# Altium footprint library FinalProjectPcbLib.PcbLib: 27 footprints (part 2 of 2)
Each footprint in its own frame and in the unit in brackets; x right, y up, seen from the top. Pads: shape width x height; smd on the part's side, far side on the other; paste and mask are expansions set on the pad; w line width, h text height; cw(c..) or ccw(c..) is an arc to the next point about the centre after c.
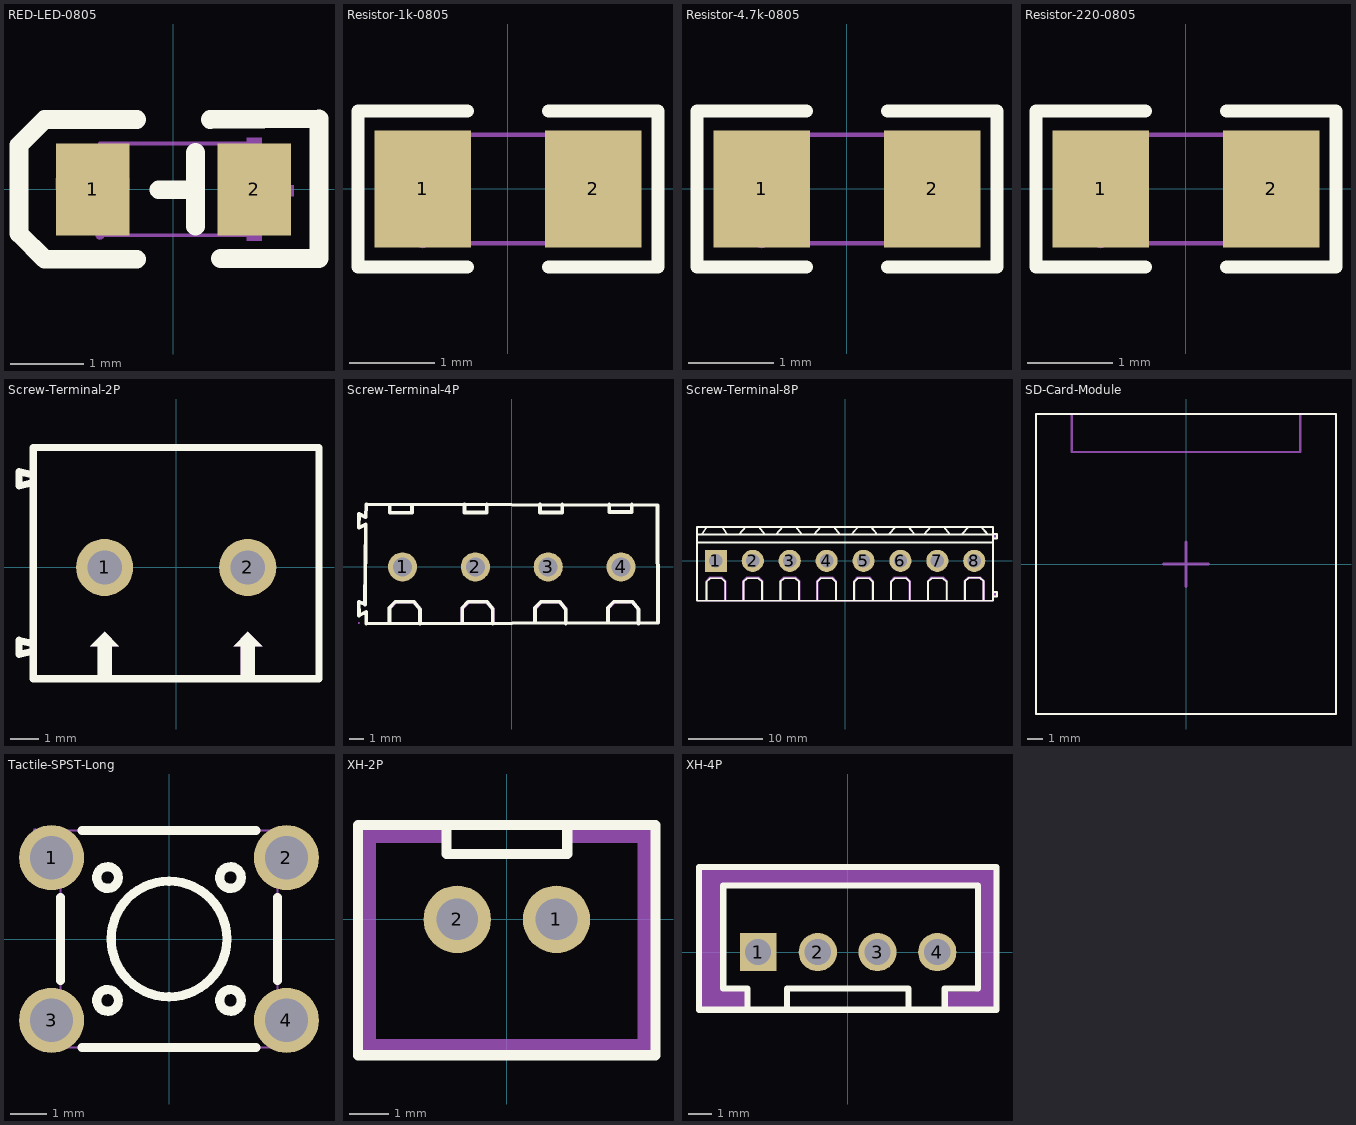
[diagram p1: the footprints below, top view; thin cyan lines are the x and y axes]

## RED-LED-0805 [mil]
pads (2):
  rect 39.4x49.2 smd: 1(-43.3,0) 2(43.3,0)
Top Overlay:
  lines w10: -19.7,-37.4 -68.9,-37.4 -82.7,-23.6 -82.7,23.6 -68.9,37.4 -19.7,37.4 ; -7.9,-0.2 11.8,-0.2 ; 11.8,-19.7 11.8,19.7 ; 19.7,37.4 77.9,37.8 77.9,-37 25.2,-37
Top Assembly:
  region: 39.3,27.6 47.2,27.6 47.2,-27.6 39.3,-27.6
  region: 25,-3.7 64.3,-3.7 64.3,2.2 25,2.2
  region: -63,0 -23.6,0 -23.6,5.9 -63,5.9
Top Courtyard:
  lines w2: -39.4,-24.6 -39.4,24.6 39.4,24.6 39.4,-24.6 -39.4,-24.6
Mechanical 8:
  region: -37,-24.6 -37.4,-25.9 -38.4,-26.8 -39.7,-26.9 -40.9,-26.4 -41.7,-25.3 -41.7,-23.9 -40.9,-22.8 -39.7,-22.3 -38.4,-22.5 -37.4,-23.3
Mechanical 9:
  region: 39.3,-24.6 25.6,-24.6 25.6,24.6 39.3,24.6
  region: -25.6,-24.6 -39.4,-24.6 -39.4,24.6 -25.6,24.6

## Resistor-1k-0805 [mil]
pads (2):
  rect 44.6x54.2 smd paste-3937 mask+2: 1(-39.3,0) 2(39.4,0)
Top Overlay:
  lines w6: -18.7,-36.1 -69.3,-36.1 -69.3,36.1 -18.7,36.1 ; 18.8,-36.1 69.4,-36.1 69.4,36.1 18.8,36.1
Top Paste:
  region: 17.8,-25.2 17.8,-8.7 35.3,-8.7 35.3,9.1 18,9.1 17.8,25.2 19.7,27.2 65,27.2 67,25.2 67,-25.2 65,-27.2 19.7,-27.2
  region: -66.9,-25.2 -66.9,25.2 -64.9,27.2 -19.6,27.2 -17.7,25.2 -17.5,9.1 -35.2,9.1 -35.2,-8.7 -17.9,-8.7 -17.7,-25.2 -19.6,-27.2 -64.9,-27.2
Top Courtyard:
  lines w2: -39.3,-25.1 39.4,-25.1 39.4,25.1 -39.3,25.1 -39.3,-25.1
Mechanical 8:
  region: -37,-25.1 -37.3,-26.4 -38.4,-27.2 -39.7,-27.4 -40.9,-26.9 -41.6,-25.8 -41.6,-24.4 -40.9,-23.3 -39.7,-22.8 -38.4,-22.9 -37.3,-23.8
Mechanical 9:
  region: 39.4,-25.1 39.4,25.1 23.7,25.1 23.7,-25.1
  region: -39.3,-25.1 -39.3,25.1 -23.6,25.1 -23.6,-25.1

## Resistor-4.7k-0805 [mil]
pads (2):
  rect 44.6x54.2 smd paste-3937 mask+2: 1(-39.3,0) 2(39.4,0)
Top Overlay:
  lines w6: -18.7,-36.1 -69.3,-36.1 -69.3,36.1 -18.7,36.1 ; 18.8,-36.1 69.4,-36.1 69.4,36.1 18.8,36.1
Top Paste:
  region: -66.9,-25.2 -66.9,25.2 -64.9,27.2 -19.6,27.2 -17.7,25.2 -17.5,9.1 -35.2,9.1 -35.2,-8.7 -17.9,-8.7 -17.7,-25.2 -19.6,-27.2 -64.9,-27.2
  region: 17.8,-25.2 17.8,-8.7 35.3,-8.7 35.3,9.1 18,9.1 17.8,25.2 19.7,27.2 65,27.2 67,25.2 67,-25.2 65,-27.2 19.7,-27.2
Top Courtyard:
  lines w2: -39.3,-25.1 -39.3,25.1 39.4,25.1 39.4,-25.1 -39.3,-25.1
Mechanical 8:
  region: -37,-25.1 -37.3,-26.4 -38.4,-27.2 -39.7,-27.4 -40.9,-26.9 -41.6,-25.8 -41.6,-24.4 -40.9,-23.3 -39.7,-22.8 -38.4,-22.9 -37.3,-23.8
Mechanical 9:
  region: -39.3,-25.1 -39.3,25.1 -23.6,25.1 -23.6,-25.1
  region: 39.4,-25.1 39.4,25.1 23.7,25.1 23.7,-25.1

## Resistor-220-0805 [mil]
pads (2):
  rect 44.6x54.2 smd paste-3937 mask+2: 1(-39.3,0) 2(39.4,0)
Top Overlay:
  lines w6: -18.7,-36.1 -69.3,-36.1 -69.3,36.1 -18.7,36.1 ; 18.8,-36.1 69.4,-36.1 69.4,36.1 18.8,36.1
Top Paste:
  region: -66.9,-25.2 -66.9,25.2 -64.9,27.2 -19.6,27.2 -17.7,25.2 -17.5,9.1 -35.2,9.1 -35.2,-8.7 -17.9,-8.7 -17.7,-25.2 -19.6,-27.2 -64.9,-27.2
  region: 17.8,-25.2 17.8,-8.7 35.3,-8.7 35.3,9.1 18,9.1 17.8,25.2 19.7,27.2 65,27.2 67,25.2 67,-25.2 65,-27.2 19.7,-27.2
Top Courtyard:
  lines w2: -39.3,-25.1 -39.3,25.1 39.4,25.1 39.4,-25.1 -39.3,-25.1
Mechanical 8:
  region: -37,-25.1 -37.3,-26.4 -38.4,-27.2 -39.7,-27.4 -40.9,-26.9 -41.6,-25.8 -41.6,-24.4 -40.9,-23.3 -39.7,-22.8 -38.4,-22.9 -37.3,-23.8
Mechanical 9:
  region: -39.3,-25.1 -39.3,25.1 -23.6,25.1 -23.6,-25.1
  region: 39.4,-25.1 39.4,25.1 23.7,25.1 23.7,-25.1

## Screw-Terminal-2P [mil]
pads (2):
  round 78.7 hole 47.2: 1(-98.6,0) 2(98.6,0)
Top Overlay:
  region: 98.7,-88.6 79,-108.3 118.4,-108.3
  region: 88.9,-108.3 108.6,-108.3 108.6,-147.6 88.9,-147.6
  region: -98.5,-88.6 -118.2,-108.3 -78.8,-108.3
  region: -108.3,-108.3 -88.6,-108.3 -88.6,-147.6 -108.3,-147.6
  lines w10: -196.9,-115.4 -216.6,-120.1 -216.6,-100.4 -196.9,-105.1 ; -196.9,117 -216.6,112.2 -216.6,131.9 -196.9,127.2 ; -196.9,-153.5 196.8,-153.5 196.8,165.4 -196.9,165.4 -196.9,-153.5
Top Assembly:
  region: -108.3,-108.3 -88.6,-108.3 -88.6,-147.6 -108.3,-147.6
  region: -98.5,-88.6 -118.2,-108.3 -78.8,-108.3
  region: 88.9,-108.3 108.6,-108.3 108.6,-147.6 88.9,-147.6
  region: 98.7,-88.6 79,-108.3 118.4,-108.3
Top Courtyard:
  lines w2: -196.9,-153.5 -196.9,165.4 196.8,165.4 196.8,-153.5 -196.9,-153.5
Mechanical 8:
  region: -194.5,-153.5 -194.9,-154.8 -195.9,-155.7 -197.2,-155.9 -198.4,-155.3 -199.1,-154.2 -199.1,-152.9 -198.4,-151.8 -197.2,-151.2 -195.9,-151.4 -194.9,-152.3
Mechanical 9:
  region: 118.2,0 117.9,-3.8 116.7,-7.5 114.9,-10.9 112.5,-13.9 109.5,-16.4 106.1,-18.2 102.4,-19.3 98.6,-19.7 94.7,-19.3 91,-18.2 87.6,-16.4 84.6,-13.9 82.2,-10.9 80.4,-7.5 79.3,-3.8 78.9,0 79.3,3.8 80.4,7.5 82.2,10.9 84.6,13.9 87.6,16.4 91,18.2 94.7,19.3 98.6,19.7 102.4,19.3 106.1,18.2 109.5,16.4 112.5,13.9 114.9,10.9 116.7,7.5 117.9,3.8
  region: -79,0 -79.3,-3.8 -80.5,-7.5 -82.3,-10.9 -84.7,-13.9 -87.7,-16.4 -91.1,-18.2 -94.8,-19.3 -98.6,-19.7 -102.5,-19.3 -106.2,-18.2 -109.6,-16.4 -112.6,-13.9 -115,-10.9 -116.8,-7.5 -117.9,-3.8 -118.3,0 -117.9,3.8 -116.8,7.5 -115,10.9 -112.6,13.9 -109.6,16.4 -106.2,18.2 -102.5,19.3 -98.6,19.7 -94.8,19.3 -91.1,18.2 -87.7,16.4 -84.7,13.9 -82.3,10.9 -80.5,7.5 -79.3,3.8

## Screw-Terminal-4P [mil]
pads (4):
  round 78.7 hole 51.2: 1(-295.3,0) 2(-98.5,0) 3(98.4,0) 4(295.2,0)
Top Overlay:
  lines w10: -393.7,167.7 -394.9,134.2 -413,143.3 -413.4,105.9 -394.5,115.3 -396.9,-101.6 -413.4,-94.1 -413,-131.5 -393.3,-121.3 -393.3,-153.6 395.2,-151.2 394.1,166.9 -392.9,169.2 ; -330.7,-149.7 -330.7,-110.3 -315,-94.5 -263.8,-94.5 -248.1,-114.2 -248.1,-153.2 ; -329.9,167.7 -329.9,146.5 -269.6,146.5 -269.6,167.7 ; -133.9,-149.7 -133.9,-110.3 -118.1,-94.5 -67,-94.5 -51.2,-114.2 -51.2,-153.2 ; -127.6,168.5 -127.6,147.2 -67.3,147.2 -67.3,168.5 ; 63,-149.7 63,-110.3 78.7,-94.5 129.9,-94.5 145.6,-114.2 145.6,-153.2 ; 76,168.5 76,147.2 136.2,147.2 136.2,168.5 ; 259.8,-149.7 259.8,-110.3 275.6,-94.5 326.7,-94.5 342.5,-114.2 342.5,-153.2 ; 263.8,169.6 263.8,148.4 324,148.4 324,169.6
Top Assembly:
  region: -334.7,-149.7 -334.7,-110.3 -315,-90.6 -263.8,-90.6 -244.1,-110.3 -244.1,-149.7 -252,-149.7 -252,-114.2 -267.7,-98.5 -311.1,-98.5 -326.8,-114.2 -326.8,-149.7
  region: -137.8,-149.7 -137.8,-110.3 -118.1,-90.6 -67,-90.6 -47.3,-110.3 -47.3,-149.7 -55.1,-149.7 -55.1,-114.2 -70.9,-98.5 -114.2,-98.5 -129.9,-114.2 -129.9,-149.7
  region: 59,-149.7 59,-110.3 78.7,-90.6 129.9,-90.6 149.6,-110.3 149.6,-149.7 141.7,-149.7 141.7,-114.2 126,-98.5 82.6,-98.5 66.9,-114.2 66.9,-149.7
  region: 255.9,-149.7 255.9,-110.3 275.6,-90.6 326.7,-90.6 346.4,-110.3 346.4,-149.7 338.6,-149.7 338.6,-114.2 322.8,-98.5 279.5,-98.5 263.8,-114.2 263.8,-149.7
Top Courtyard:
  lines w2: -413.4,-131.9 -393.9,-123 -393.9,-151.7 393.1,-151.7 393.1,167.2 -393.7,167.2 -393.7,134.5 -413.4,143.6 -413.4,104.2 -393.8,113.3 -393.9,-101.7 -413.4,-92.5 -413.4,-131.9
Mechanical 8:
  region: -411.1,-151.7 -411.5,-153 -412.5,-153.9 -413.8,-154.1 -415,-153.5 -415.7,-152.4 -415.7,-151.1 -415,-150 -413.8,-149.4 -412.5,-149.6 -411.5,-150.5
Mechanical 9:
  region: 276.5,9.8 313.9,9.8 313.9,-9.9 276.5,-9.9
  region: 79.7,9.8 117.1,9.8 117.1,-9.9 79.7,-9.9
  region: -117.2,9.8 -79.8,9.8 -79.8,-9.9 -117.2,-9.9
  region: -314,9.8 -276.6,9.8 -276.6,-9.9 -314,-9.9

## Screw-Terminal-8P [mil]
pads (8):
  rect 118.1x118.1 hole 70.9: 1(-689,0)
  round 118.1 hole 70.9: 2(-492.2,0) 3(-295.3,0) 4(-98.5,0) 5(98.4,0) 6(295.2,0) 7(492.1,0) 8(688.9,0)
Top Overlay:
  lines w10: -789,96.9 788.9,96.9 ; -789,140.9 788.9,140.9 ; -764.6,140.9 -738.6,181.1 ; -739,-212.6 -739,-112.6 -719,-92.6 -659,-92.6 -639,-112.6 -639,-212.6 ; -655.1,181.1 -627.6,140.9 ; -564.3,140.9 -528.8,181.1 ; -542.2,-212.6 -542.2,-112.6 -522.2,-92.6 -462.2,-92.6 -442.2,-112.6 -442.2,-212.6 ; -460.3,181.1 -427.8,140.9 ; -366.7,141.1 -331.2,181.3 ; -345.3,-212.6 -345.3,-112.6 -325.3,-92.6 -265.3,-92.6 -245.3,-112.6 -245.3,-212.6 ; -262.7,181.3 -230.2,141.1 ; -165.5,141.1 -130,181.3 ; -148.5,-212.6 -148.5,-112.6 -128.5,-92.6 -68.5,-92.6 -48.5,-112.6 -48.5,-212.6 ; -61.5,181.3 -29,141.1 ; 34.1,140.7 69.6,180.9 ; 48.4,-212.6 48.4,-112.6 68.4,-92.6 128.4,-92.6 148.4,-112.6 148.4,-212.6 ; 138.1,180.9 170.6,140.7 ; 234.1,140.8 269.6,181.1 ; 245.2,-212.6 245.2,-112.6 265.2,-92.6 325.2,-92.6 345.2,-112.6 345.2,-212.6 ; 338.1,181.1 370.6,140.8 ; 422.6,140.9 458.1,181.1 ; 442.1,-212.6 442.1,-112.6 462.1,-92.6 522.1,-92.6 542.1,-112.6 542.1,-212.6 ; 526.6,181.1 559.1,140.9 ; 623,140.9 658.5,181.1 ; 638.9,-212.6 638.9,-110 658.9,-90 718.9,-90 738.9,-110 738.9,-212.6 ; 727,181.1 759.5,140.9 ; 788.9,-212.6 -789,-212.6 -789,181.1 789,181.1 789,-212.6 ; 789,-188.7 790.3,-190 810,-190 810,-185 810,-167 789,-167 ; 789,121 789.9,120 810.2,120 810.2,142.9 789,142.9
Top Assembly:
  region: 790,-185 790,-165 810,-165 810,-185
  region: 790,140 810,140 810,120 790,120
  region: -644,-210 -634,-210 -634,-105 -654,-85 -724,-85 -744,-105 -744,-210 -734,-210 -734,-110 -719,-95 -659,-95 -644,-110
  region: -447.2,-210 -437.2,-210 -437.2,-105 -457.2,-85 -527.2,-85 -547.2,-105 -547.2,-210 -537.2,-210 -537.2,-110 -522.2,-95 -462.2,-95 -447.2,-110
  region: -250.3,-210 -240.3,-210 -240.3,-105 -260.3,-85 -330.3,-85 -350.3,-105 -350.3,-210 -340.3,-210 -340.3,-110 -325.3,-95 -265.3,-95 -250.3,-110
  region: -53.5,-210 -43.5,-210 -43.5,-105 -63.5,-85 -133.5,-85 -153.5,-105 -153.5,-210 -143.5,-210 -143.5,-110 -128.5,-95 -68.5,-95 -53.5,-110
  region: 143.4,-210 153.4,-210 153.4,-105 133.4,-85 63.4,-85 43.4,-105 43.4,-210 53.4,-210 53.4,-110 68.4,-95 128.4,-95 143.4,-110
  region: 340.2,-210 350.2,-210 350.2,-105 330.2,-85 260.2,-85 240.2,-105 240.2,-210 250.2,-210 250.2,-110 265.2,-95 325.2,-95 340.2,-110
  region: 537.1,-210 547.1,-210 547.1,-105 527.1,-85 457.1,-85 437.1,-105 437.1,-210 447.1,-210 447.1,-110 462.1,-95 522.1,-95 537.1,-110
  region: 733.9,-210 743.9,-210 743.9,-105 723.9,-85 653.9,-85 633.9,-105 633.9,-210 643.9,-210 643.9,-110 658.9,-95 718.9,-95 733.9,-110
Top Courtyard:
  lines w2: -787.4,-212.6 -787.4,181.1 787.4,181.1 787.4,-212.6 -787.4,-212.6
Mechanical 8:
  region: -785.1,-212.6 -785.5,-213.9 -786.5,-214.8 -787.8,-215 -789,-214.4 -789.7,-213.3 -789.7,-212 -789,-210.9 -787.8,-210.3 -786.5,-210.5 -785.5,-211.4
Mechanical 9:
  region: -507.9,15.7 -476.4,15.7 -476.4,-15.8 -507.9,-15.8
  region: -704.8,15.7 -673.3,15.7 -673.3,-15.8 -704.8,-15.8
  region: -311.1,15.7 -279.6,15.7 -279.6,-15.8 -311.1,-15.8
  region: -114.2,15.7 -82.7,15.7 -82.7,-15.8 -114.2,-15.8
  region: 82.6,15.7 114.1,15.7 114.1,-15.8 82.6,-15.8
  region: 279.5,15.7 311,15.7 311,-15.8 279.5,-15.8
  region: 476.3,15.7 507.8,15.7 507.8,-15.8 476.3,-15.8
  region: 673.2,15.7 704.7,15.7 704.7,-15.8 673.2,-15.8

## SD-Card-Module [mil]
Top Overlay:
  lines w6: -393.7,-393.7 393.7,-393.7 393.7,393.7 -393.7,393.7 -393.7,-393.7
  text ".Designator" at -385.7,418.36 h50
Guide Lines:
  lines w6: -300,293.7 300,293.7 300,393.7 -300,393.7 -300,293.7
Top Assembly:
  lines w6: -393.7,-393.7 393.7,-393.7 393.7,393.7 -393.7,393.7 -393.7,-393.7
Top Component Center:
  lines w8: -59.06,0 0,0 ; 0,-59.06 0,0 ; 0,57.09 0,0 ; 59.06,0 0,0

## Tactile-SPST-Long [mil]
pads (4):
  round 70.9 hole 47.2: 1(-128,88.6) 2(127.9,88.6) 3(-128,-88.6) 4(127.9,-88.6)
Top Overlay:
  drawing of 160 lines, arcs and shapes, not listed
Top Courtyard:
  lines w2: -118.1,-118.1 -118.1,118.1 118.1,118.1 118.1,-118.1 -118.1,-118.1
Bottom Courtyard:
  region: 114.2,-102.3 114.2,-74.8 145.7,-74.8 145.7,-102.3
  region: 114.2,74.8 114.2,102.4 145.7,102.4 145.7,74.8
  region: -114.2,102.4 -114.2,74.8 -145.7,74.8 -145.7,102.4
  region: -114.2,-74.8 -114.2,-102.3 -145.7,-102.3 -145.7,-74.8
Mechanical 8:
  region: -143.3,118.1 -143.7,116.8 -144.7,116 -146,115.8 -147.2,116.3 -148,117.5 -148,118.8 -147.2,119.9 -146,120.5 -144.7,120.3 -143.7,119.4
Mechanical 9:
  region: 122,-74.8 133.8,-74.8 133.8,-102.3 122,-102.3
  region: 122,102.4 133.8,102.4 133.8,74.8 122,74.8
  region: -133.9,102.4 -122.1,102.4 -122.1,74.8 -133.9,74.8
  region: -133.9,-74.8 -122.1,-74.8 -122.1,-102.3 -133.9,-102.3

## XH-2P [mil]
pads (2):
  round 66.9 hole 41.3 paste+0 mask+2: 1(49.3,0) 2(-49.2,0)
Top Overlay:
  lines w10: -60,90 -60,65 60,65 60,93.5 ; -32.5,93.5 -23.1,93.5 ; -147.6,-134.8 147.7,-134.8 147.7,93.5 -147.6,93.5 -147.6,-134.8
Top Assembly:
  region: 147.7,91.6 147.7,-134.8 -147.6,-134.8 -147.6,91.6 -59,91.6 -59,75.9 -129.9,75.9 -129.9,-119 130,-119 130,75.9 59.1,75.9 59.1,91.6
Top Courtyard:
  lines w2: -147.6,-134.8 147.7,-134.8 147.7,93.5 -147.6,93.5 -147.6,-134.8
Mechanical 8:
  region: 150,93.5 149.7,92.3 148.7,91.4 147.3,91.2 146.1,91.8 145.4,92.9 145.4,94.2 146.1,95.3 147.3,95.9 148.7,95.7 149.7,94.8
Mechanical 9:
  region: 61.8,-12.6 36.7,-12.6 36.7,12.6 61.8,12.6
  region: -36.6,-12.6 -61.8,-12.6 -61.8,12.6 -36.6,12.6

## XH-4P [mil]
pads (4):
  rect 60x63 hole 43.3: 1(-147.6,0)
  round 63 hole 43.3: 2(-49.2,0) 3(49.2,0) 4(147.7,0)
Top Overlay:
  lines w10: -165,-95 -165,-90 -165,-60 -205,-60 -205,110 215,110 215,-60 160,-60 160,-90 ; -100,-95 -100,-60 100,-60 100,-95 ; -245,-95 245,-95 245,140 -245,140 -245,-95
Top Assembly:
  region: 160,-95 160,-65 210,-65 215,-60 215,110 -205,110 -205,-60 -165,-60 -165,-95 -245,-95 -245,140 245,140 245,-95
Top Courtyard:
  lines w2: -246,-94.5 -246,137.7 246.1,137.7 246.1,-94.5 -246,-94.5
Mechanical 8:
  region: -243.7,-94.5 -244.1,-95.8 -245.1,-96.7 -246.4,-96.9 -247.6,-96.3 -248.3,-95.2 -248.3,-93.9 -247.6,-92.8 -246.4,-92.2 -245.1,-92.4 -244.1,-93.3
Mechanical 9:
  region: -160.2,12.5 -135,12.5 -135,-12.6 -160.2,-12.6
  region: -61.8,12.5 -36.6,12.5 -36.6,-12.6 -61.8,-12.6
  region: 36.6,12.5 61.8,12.5 61.8,-12.6 36.6,-12.6
  region: 135.1,12.5 160.3,12.5 160.3,-12.6 135.1,-12.6